# EAGLE library part TPS5450DDAR_SMD (library TIparts)
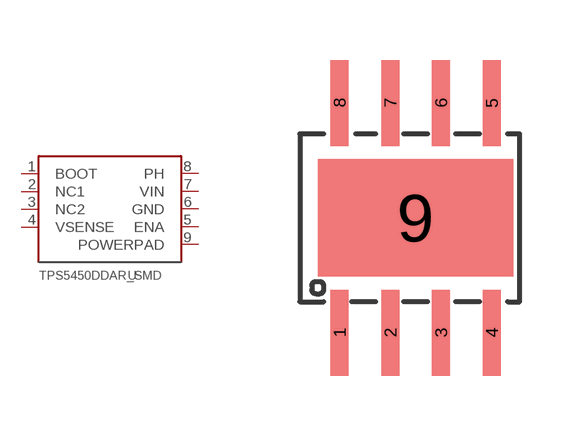
[diagram p0: symbol with the pads of SO-POWERPAD; footprint SO-POWERPAD]

Designator prefix -

## TPS5450DDAR_SMD  [SO-POWERPAD]
1  BOOT
2  NC1
3  NC2
4  VSENSE
5  ENA
6  GND
7  VIN
8  PH
9  POWERPAD

## Footprint SO-POWERPAD (pad centres in mm)
smd 0.45 x 2.15: 1 -1.905,-2.875; 2 -0.635,-2.875; 3 0.635,-2.875; 4 1.905,-2.875; 5 1.905,2.875; 6 0.635,2.875; 7 -0.635,2.875; 8 -1.905,2.875
smd 4.89 x 2.94: 9 0,0